# Altium schematic symbol library xtal.SchLib: 5 symbols
Pins are listed as number, name and electrical type; pins without a type are passive.

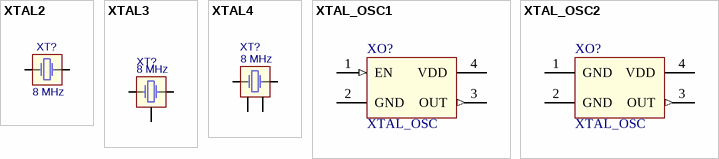
[diagram p0: symbols XTAL2 to XTAL_OSC2]

## XTAL2
designator XT?  value 8 MHz  (hidden comment: XTAL2)
Crystal rezonator 2 pins
footprint HC-49/S
footprint HC-49/S-SMD
footprint 3215E (Compact and thin 3.2 x 1.5 x 0.8mm)
footprint ABM3 (MINIATURE CERAMIC SMD CRYSTAL, 2-Leads, Body 5,00x3,20mm, IPC Medium Density)
pins: 1, 2

## XTAL3
designator XT?, comment value 8 MHz  (hidden comment: XTAL with ground)
Crystal rezonator 2 pins + 1 ground
footprint DT38
pins: 1, 2, 3 GND (power)

## XTAL4
designator XT?  value 8 MHz  (hidden comment: XTAL4)
Crystal rezonator 4 pins
footprint 2016 (Compact and thin 2.0 x 1.6 x 0.8mm)
footprint ABM8 (Compact and thin 3.2 x 2.5 x 0.8mm)
footprint 2520 (Compact and thin 2.5 x 2.0 x 0.8mm)
footprint 3225 (Compact and thin 3.2 x 2.5 x 0.75mm)
footprint 6914E (Compact 6.9 x 1.4 x 1.4mm)
pins: 1, 2 GND, 3, 4 GND

## XTAL_OSC1
designator XO?, comment XTAL_OSC
Crystal active oscillator; Value: XTAL OSC
footprint 2016 (Compact and thin 2.0 x 1.6 x 0.8mm)
footprint 2520 (Compact and thin 2.5 x 2.0 x 0.8mm)
footprint 3225 (Compact and thin 3.2 x 2.5 x 0.75mm)
pins: 1 EN (in), 2 GND (power), 3 OUT (out), 4 VDD (power)

## XTAL_OSC2
designator XO?, comment XTAL_OSC
Crystal active oscillator; value: XTAL OSC
footprint 2016 (Compact and thin 2.0 x 1.6 x 0.8mm)
footprint 2520 (Compact and thin 2.5 x 2.0 x 0.8mm)
footprint 3225 (Compact and thin 3.2 x 2.5 x 0.75mm)
pins: 1 GND (power), 2 GND (power), 3 OUT (out), 4 VDD (power)